# Altium footprint library BLErelay.PcbLib: 20 footprints (part 2 of 2)
Each footprint in its own frame and in the unit in brackets; x right, y up, seen from the top. Pads: shape width x height; smd on the part's side, far side on the other; paste and mask are expansions set on the pad; w line width, h text height; cw(c..) or ccw(c..) is an arc to the next point about the centre after c.
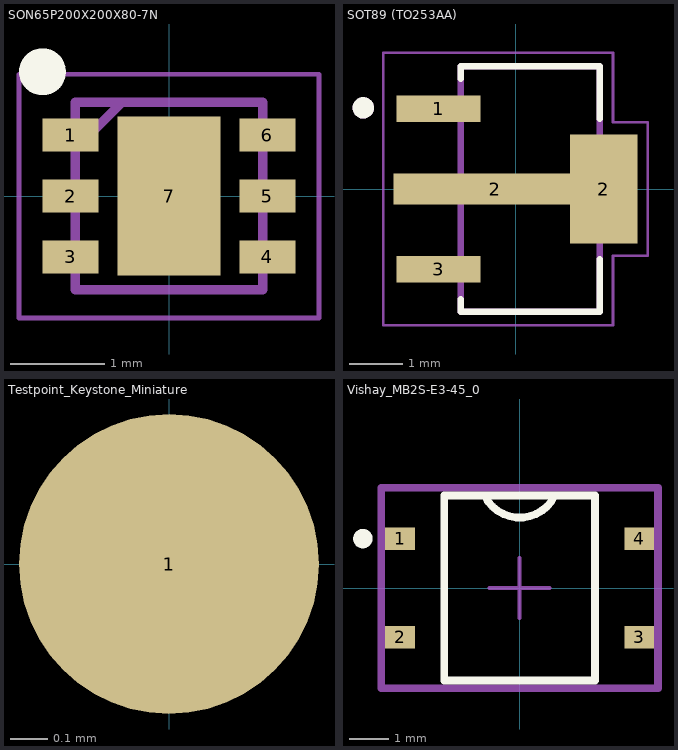
[diagram p1: the footprints below, top view; thin cyan lines are the x and y axes]

## SON65P200X200X80-7N [mm]
pads (7):
  rect 0.6x0.35 smd: 1(-1.05,0.65) 2(-1.05,0) 3(-1.05,-0.65) 4(1.05,-0.65) 5(1.05,0) 6(1.05,0.65)
  rect 1.1x1.7 smd: 7(0,0)
Top Overlay:
  circle w0.25: c-1.35,1.325 r0.125
Mechanical 13:
  lines w0.1: -1,0.5 -0.5,1 ; -1,-1 1,-1 1,1 -1,1 -1,-1
Mechanical 15:
  lines w0.05: -1.6,-1.3 1.6,-1.3 1.6,1.3 -1.6,1.3 -1.6,-1.3
3D body "TPS70933DRVR.stp": height 0.8, standoff 0, extent -1.05,-1 1.05,1

## SOT89 (TO253AA) [mm]
pads (4):
  rect 1.57x0.5 smd: 1(-1.44,1.5) 3(-1.44,-1.5)
  rect 3.81x0.58 smd: 2(-0.381,0)
  rect 1.27x2.032 smd: 2(1.651,0)
Top Overlay:
  circle w0.2: c-2.85,1.52 r0.1
  lines w0.127: -1.025,-2.07 -1.025,-2.3 1.575,-2.3 1.575,-1.32 ; -1.025,2.07 -1.025,2.3 1.575,2.3 1.575,1.32
Top Paste:
  region: -2.225,0.29 -1.365,0.29 -1.365,-0.29 -2.225,-0.29
Top Solder:
  lines w0: 2.325,-1.1 2.325,1.1
Mechanical 4:
  circle w0.2: c-2.85,1.52 r0.1
  circle w0.2: c-2.85,1.52 r0.1
  lines w0.127: -1.025,-2.3 1.575,-2.3 ; -1.025,-2.3 -1.025,2.3 ; -1.025,-2.3 1.575,-2.3 ; -1.025,-2.3 -1.025,2.3 ; -1.025,2.3 1.575,2.3 ; -1.025,2.3 1.575,2.3 ; 1.575,-2.3 1.575,2.3 ; 1.575,-2.3 1.575,2.3
Mechanical 16:
  lines w0.05: -2.475,-2.55 1.825,-2.55 1.825,-1.25 2.475,-1.25 2.475,1.25 1.825,1.25 1.825,2.55 -2.475,2.55 -2.475,-2.55
3D body "User Library-SOT-89-1.step": height 1.51, standoff 0, extent -2.108,-2.25 2.192,2.25

## Testpoint_Keystone_Miniature [mm] "Miniature SMT test point"
height 2.3
pads (1):
  round 0.8 smd: 1(0,0)

## Vishay_MB2S-E3-45_0 [mm]
pads (4):
  rect 0.76x0.58 smd paste+0 mask+0: 1(-3.075,1.27) 2(-3.075,-1.27) 3(3.075,-1.27) 4(3.075,1.27)
Top Overlay:
  circle w0.25: c-4.03,1.27 r0.125
  lines w0.2: -0.9,2.375 ccw(c0,2.811) 0.9,2.375 ; -1.937,-2.375 -1.937,2.375 1.937,2.375 1.937,-2.375 -1.937,-2.375
Mechanical 10:
  lines w0.2: -3.555,-2.575 -3.555,2.575 3.555,2.575 3.555,-2.575 -3.555,-2.575
  text ".Designator" at 0,0 h0.7
Mechanical 12:
  lines w0.15: -1.937,-2.375 -1.937,2.375 1.937,2.375 1.937,-2.375 -1.937,-2.375
Mechanical 15:
  lines w0.1: -0.773,0 0.773,0 ; 0,-0.773 0,0.773
  lines w0.2: -3.555,-2.575 -3.555,2.575 3.555,2.575 3.555,-2.575 -3.555,-2.575
3D body "Diode_Vishay_MB2S-E3-45_eec.STEP": height 2.93, standoff 0.03, extent -3.45,-2.475 3.45,2.475